# Altium integrated library Motorola RF and IF Front End.IntLib: 2 symbols
Pins are listed as number, name and electrical type; pins without a type are passive.

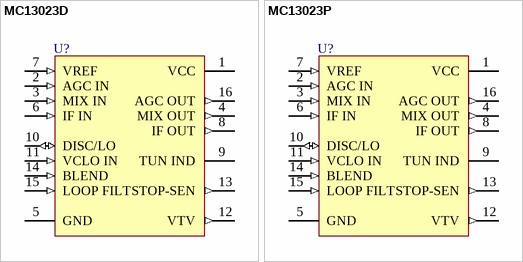
[diagram p0: symbols MC13023D to MC13023P]

## MC13023D
designator U?
AM Stereo Front End and Tuner Stabilizer; Published: 17-Jul-2002; LatestRevisionDate: 13-Apr-2006; LatestRevisionNote: IPC-7351 Footprint Added.; DatasheetVersion: 1988; PackageVersion: 1991; PackageReference: 751B-03; Publisher: Altium Limited; PackageDescription: 16-Pin Small Outline Integrated Circuit 1.27 mm Pitch; Code_JEDEC: MS-012-AC; Code_IPC: SOIC127P600-16; ComponentLink1Description: Manufacturer Link; ComponentLink1URL: http://www.motorola.com/
footprint 751B-03_N (SOIC, 16-Leads, Body 9.9x3.9mm, Pitch 1.27mm, IPC Medium Density)
footprint 751B-03_L (SOIC, 16-Leads, Body 9.9x3.9mm, Pitch 1.27mm, IPC High Density)
footprint 751B-03_M (SOIC, 16-Leads, Body 9.9x3.9mm, Pitch 1.27mm, IPC Low Density)
3D model 751B-03 (16-Pin Small Outline Integrated Circuit 1.27 mm Pitch)
pins: 1 VCC (power), 2 AGC IN (in), 3 MIX IN (in), 4 MIX OUT (out), 5 GND (power), 6 IF IN (in), 7 VREF (in), 8 IF OUT (out), 9 TUN IND (oc), 10 DISC/LO (io), 11 VCLO IN (in), 12 VTV (out), 13 STOP-SEN (out), 14 BLEND (in), 15 LOOP FILT (in), 16 AGC OUT (out)

## MC13023P
designator U?
AM Stereo Front End and Tuner Stabilizer; Published: 17-Jul-2002; LatestRevisionDate: 06-Jun-2005; LatestRevisionNote: Stylized 3D Model Added.; DatasheetVersion: 1988; PackageReference: 648-06; Publisher: Altium Limited; PackageDescription: DIP; 16 Leads; Row Spacing 7.62 mm; Pitch 2.54 mm; ComponentLink1Description: Manufacturer Link; ComponentLink1URL: http://www.motorola.com/
footprint 648-06 (DIP; 16 Leads; Row Spacing 7.62 mm; Pitch 2.54 mm)
3D model 648-06 (DIP; 16 Leads; Row Spacing 7.62 mm; Pitch 2.54 mm)
pins: 1 VCC (power), 2 AGC IN (in), 3 MIX IN (in), 4 MIX OUT (out), 5 GND (power), 6 IF IN (in), 7 VREF (in), 8 IF OUT (out), 9 TUN IND (oc), 10 DISC/LO (io), 11 VCLO IN (in), 12 VTV (out), 13 STOP-SEN (out), 14 BLEND (in), 15 LOOP FILT (in), 16 AGC OUT (out)